# Altium schematic symbol library CustomPeripherals.SchLib: 5 symbols
Pins are listed as number, name and electrical type; pins without a type are passive.

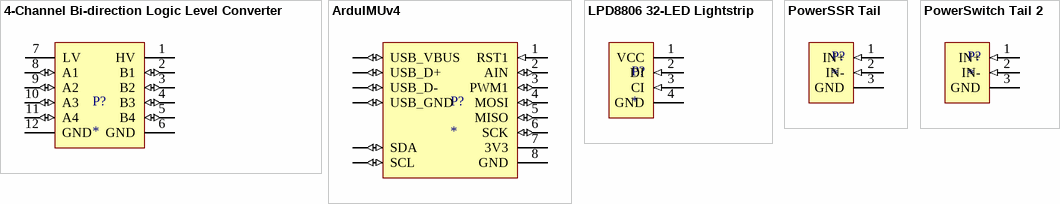
[diagram p0: symbols 4-Channel Bi-direction Logic Level Converter to PowerSwitch Tail 2]

## 4-Channel Bi-direction Logic Level Converter
designator P?
4-Channel Bi-direction Logic Level Converter
pins: 1 HV (power), 2 B1 (io), 3 B2 (io), 4 B3 (io), 5 B4 (io), 6 GND (power), 7 LV (power), 8 A1 (io), 9 A2 (io), 10 A3 (io), 11 A4 (io), 12 GND (power)

## ArduIMUv4
designator P?
ArduIMU v4
pins: 1 RST1 (in), 2 AIN (io), 3 PWM1 (io), 4 MOSI (io), 5 MISO (io), 6 SCK (io), 7 3V3 (power), 8 GND (power), 9 USB_VBUS (io), 10 USB_D+ (io), 11 USB_D- (io), 12 USB_GND (io), 13 SDA (io), 14 SCL (io)

## LPD8806 32-LED Lightstrip
designator P?
LPD8806 32-LED Lightstrip
pins: 1 VCC (power), 2 DI (in), 3 CI (in), 4 GND (power)

## PowerSSR Tail
designator P?
PowerSSR Tail
pins: 1 IN+ (in), 2 IN- (in), 3 GND

## PowerSwitch Tail 2
designator P?
PowerSwitch Tail 2
pins: 1 IN+ (in), 2 IN- (in), 3 GND